# EAGLE library part MICRO-USB-RECEPTACLE_MY (library con-molex-usb_my)
MICRO USB RECEPTACLES Micro-USB Receptacles, SMT, Lead-Free from MOLEX <http://www.molex.com/>. (C) 2014 Tomasz Boleslaw CEDRO, cederom@tlen.pl, http://www.tomek.cedro.info. Version 0.1 (2014-01-17): Initial release. Version 0.2 (2014-02-06): Updated 47589-0001 footprint pins/pads/milling. Following devices are included: 1. 47589-0001 Micro-USB AB Receptacle, Bottom Mount, SMT, Lead-Free <http://www.molex.com/molex/products/datasheet.jsp?part=active/0475890001_IO_CONNECTORS.xml> (Technical Drawing <http://www.molex.com/pdm_docs/sd/475890001_sd.pdf>).
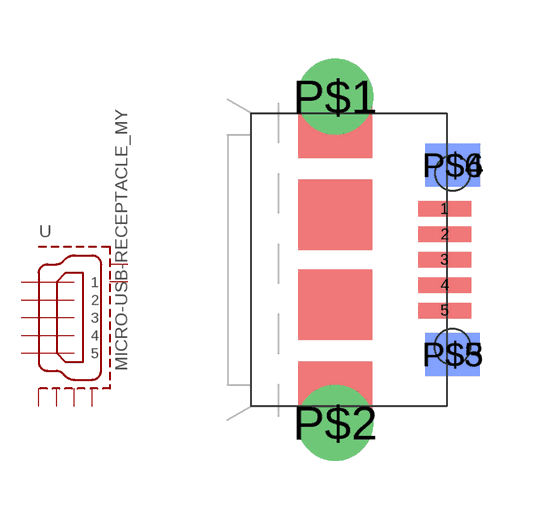
[diagram p1: symbol with the pads of 47589-0001_MY; footprint 47589-0001_MY]

Designator prefix -

## MICRO-USB-RECEPTACLE_MY  [47589-0001_MY]
1  1  in
2  2  in
3  3  in
4  4  in
5  5  in
P$1  GND1
P$2  GND2
P$3  GND3
P$4  GND4
P$5  GND5
P$6  GND6

## Footprint 47589-0001_MY (pad centres in mm)
smd 1.35 x 0.4: 1 4.07,1.3; 2 4.07,0.65; 3 4.07,0; 4 4.07,-0.65; 5 4.07,-1.3
drill 1.3: P$1 1.27,4.175; P$2 1.27,-4.175
smd 1.4 x 1.1: P$3 4.27,-2.425; P$4 4.275,2.42
smd 1.4 x 1.1 bottom: P$5 4.27,-2.425; P$6 4.275,2.42
hole 0.9 at 4.275,2.22
hole 0.9 at 4.27,-2.225